# Altium footprint library MOLEX_42410-8504.PcbLib: 1 footprints
Each footprint in its own frame and in the unit in brackets; x right, y up, seen from the top. Pads: shape width x height; smd on the part's side, far side on the other; paste and mask are expansions set on the pad; w line width, h text height; cw(c..) or ccw(c..) is an arc to the next point about the centre after c.
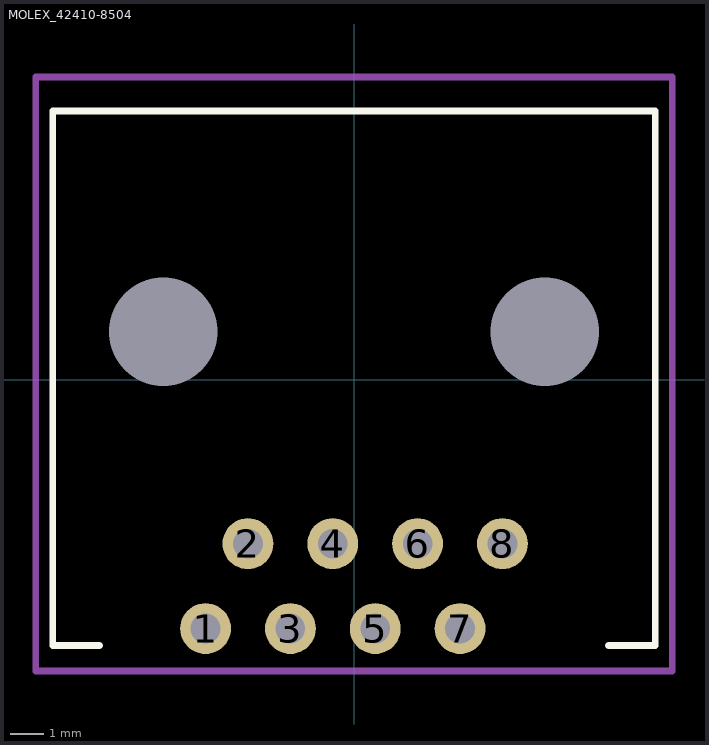
[diagram p0: the footprint, top view; thin cyan lines are the x and y axes]

## MOLEX_42410-8504 [mil]
pads (10):
  round 60 hole 35: 1(-175,-293) 2(-125,-193) 3(-75,-293) 4(-25,-193) 5(25,-293) 6(75,-193) 7(125,-293) 8(175,-193)
  round 60 hole 128 unplated: ""(-225,57) ""(225,57)
Top Overlay:
  lines w7.87: -300,-313 -355,-313 -355,317 355,317 355,-313 300,-313
Mechanical 15:
  lines w7.87: -375,-343 375,-343 375,357 -375,357 -375,-343
Mechanical 17:
  text ".Designator" at -300,-120 h60
Mechanical 19:
  text ".Comment" at -300,-125 h60
3D body: height 645.5, standoff -204.5, extent -354.99,-310.5 355,314.5